# Altium footprint library PLD2-12.PcbLib: 1 footprints
Each footprint in its own frame and in the unit in brackets; x right, y up, seen from the top. Pads: shape width x height; smd on the part's side, far side on the other; paste and mask are expansions set on the pad; w line width, h text height; cw(c..) or ccw(c..) is an arc to the next point about the centre after c.
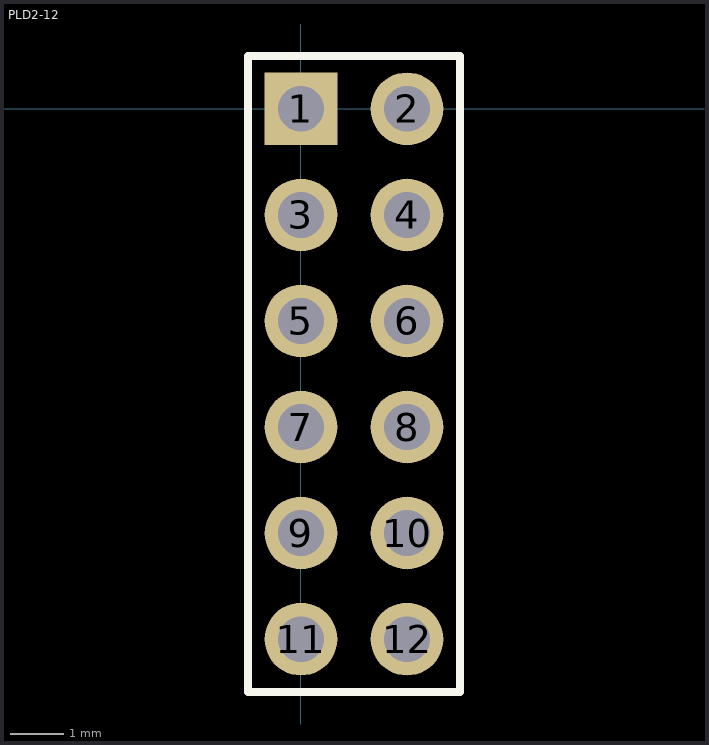
[diagram p0: the footprint, top view; thin cyan lines are the x and y axes]

## PLD2-12 [mil]
pads (12):
  rect 54x54 hole 34: 1(0,0)
  round 54 hole 34: 2(78.74,0) 3(0,-78.74) 4(78.74,-78.74) 5(0,-157.48) 6(78.74,-157.48) 7(0,-236.22) 8(78.74,-236.22) 9(0,-314.96) 10(78.74,-314.96) 11(0,-393.7) 12(78.74,-393.7)
Top Overlay:
  lines w5.91: -39.37,-433.07 118.11,-433.07 118.11,39.37 -39.37,39.37 -39.37,-433.07
Top Designator (Mech16):
  text "'.Designator'" at -5.26,31.5 h78.74
3D body "PLD2-12.STEP": height 236.22, standoff -106.3, extent -39.37,-429.13 118.11,35.44